# Altium footprint library PANASONIC_ALEXPXXX.PcbLib: 1 footprints
Each footprint in its own frame and in the unit in brackets; x right, y up, seen from the top. Pads: shape width x height; smd on the part's side, far side on the other; paste and mask are expansions set on the pad; w line width, h text height; cw(c..) or ccw(c..) is an arc to the next point about the centre after c.
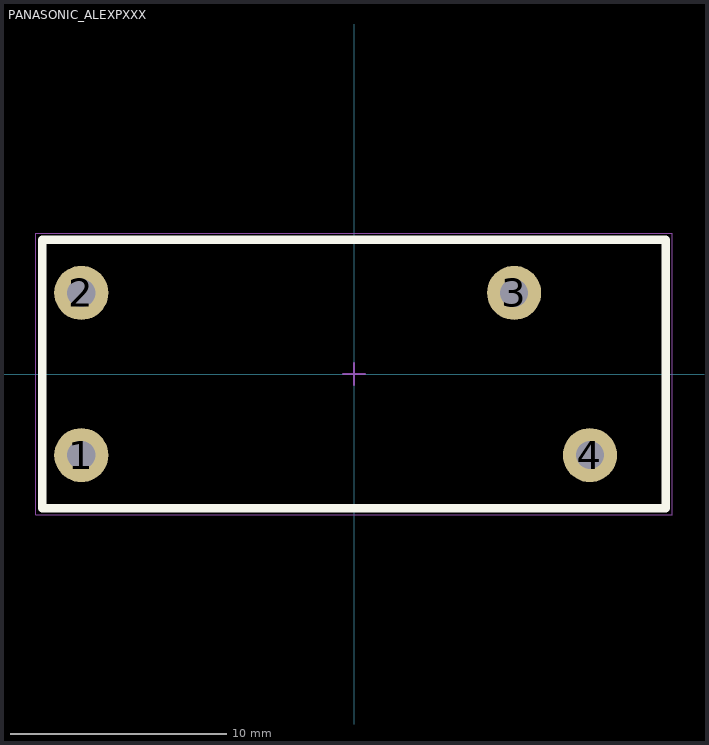
[diagram p0: the footprint, top view; thin cyan lines are the x and y axes]

## PANASONIC_ALEXPXXX [mm] "PANASONIC_ALEXPXXX"
height 24.9
pads (4):
  round 2.5 hole 1.3 mask+0.05: 1(-12.6,-3.75) 2(-12.6,3.75) 3(7.4,3.75) 4(10.9,-3.75)
Top Overlay:
  lines w0.4: -14.4,-6.2 -14.4,6.2 14.4,6.2 14.4,-6.2 -14.4,-6.2
Mechanical 13:
  lines w0.1: -14.4,-6.2 -14.4,6.2 14.4,6.2 14.4,-6.2 -14.4,-6.2
Mechanical 15:
  lines w0.05: -14.7,-6.5 14.7,-6.5 14.7,6.5 -14.7,6.5 -14.7,-6.5
  lines w0.1: -0.5,0 0.5,0 ; 0,-0.5 0,0.5
3D body: height 24.9, standoff 0, extent -14.4,-6.2 14.4,6.2